# Altium schematic symbol library CONN 67503-1020 USB.SchLib: 1 symbol
Pins are listed as number, name and electrical type; pins without a type are passive.

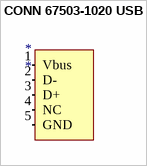
[diagram p0: symbol CONN 67503-1020 USB]

## CONN 67503-1020 USB
designator *
Hotizontal Surface Mount USB
pins: 1 Vbus (in), 2 D- (in), 3 D+ (in), 4 NC (in), 5 GND (in)